# Altium footprint library XCVR_DWM1000.PcbLib: 1 footprints
Each footprint in its own frame and in the unit in brackets; x right, y up, seen from the top. Pads: shape width x height; smd on the part's side, far side on the other; paste and mask are expansions set on the pad; w line width, h text height; cw(c..) or ccw(c..) is an arc to the next point about the centre after c.
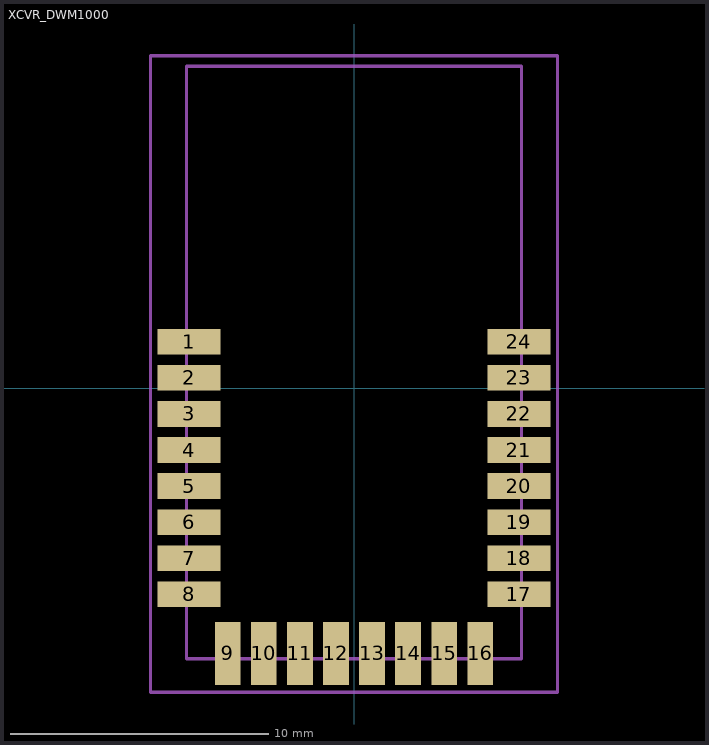
[diagram p0: the footprint, top view; thin cyan lines are the x and y axes]

## XCVR_DWM1000 [mm]
pads (24):
  rect 2.45x1 smd: 1(-6.4,1.8) 2(-6.4,0.4) 3(-6.4,-1) 4(-6.4,-2.4) 5(-6.4,-3.8) 6(-6.4,-5.2) 7(-6.4,-6.6) 8(-6.4,-8) 17(6.4,-8) 18(6.4,-6.6) 19(6.4,-5.2) 20(6.4,-3.8) 21(6.4,-2.4) 22(6.4,-1) 23(6.4,0.4) 24(6.4,1.8)
  rect 1x2.45 smd: 9(-4.9,-10.295) 10(-3.5,-10.295) 11(-2.1,-10.295) 12(-0.7,-10.295) 13(0.7,-10.295) 14(2.1,-10.295) 15(3.5,-10.295) 16(4.9,-10.295)
Mechanical 13:
  lines w0.127: -6.5,-10.5 6.5,-10.5 6.5,12.5 -6.5,12.5 -6.5,-10.5
Mechanical 15:
  lines w0.127: -7.9,-11.8 7.9,-11.8 7.9,12.9 -7.9,12.9 -7.9,-11.8
3D body "DWM1000 Module.STEP": height 2.9, standoff 0, extent -6.6,-10.5 6.6,12.5